# Altium integrated library TI Video Colour Decoder Circuit.IntLib: 24 symbols (part 1 of 3)
Pins are listed as number, name and electrical type; pins without a type are passive.

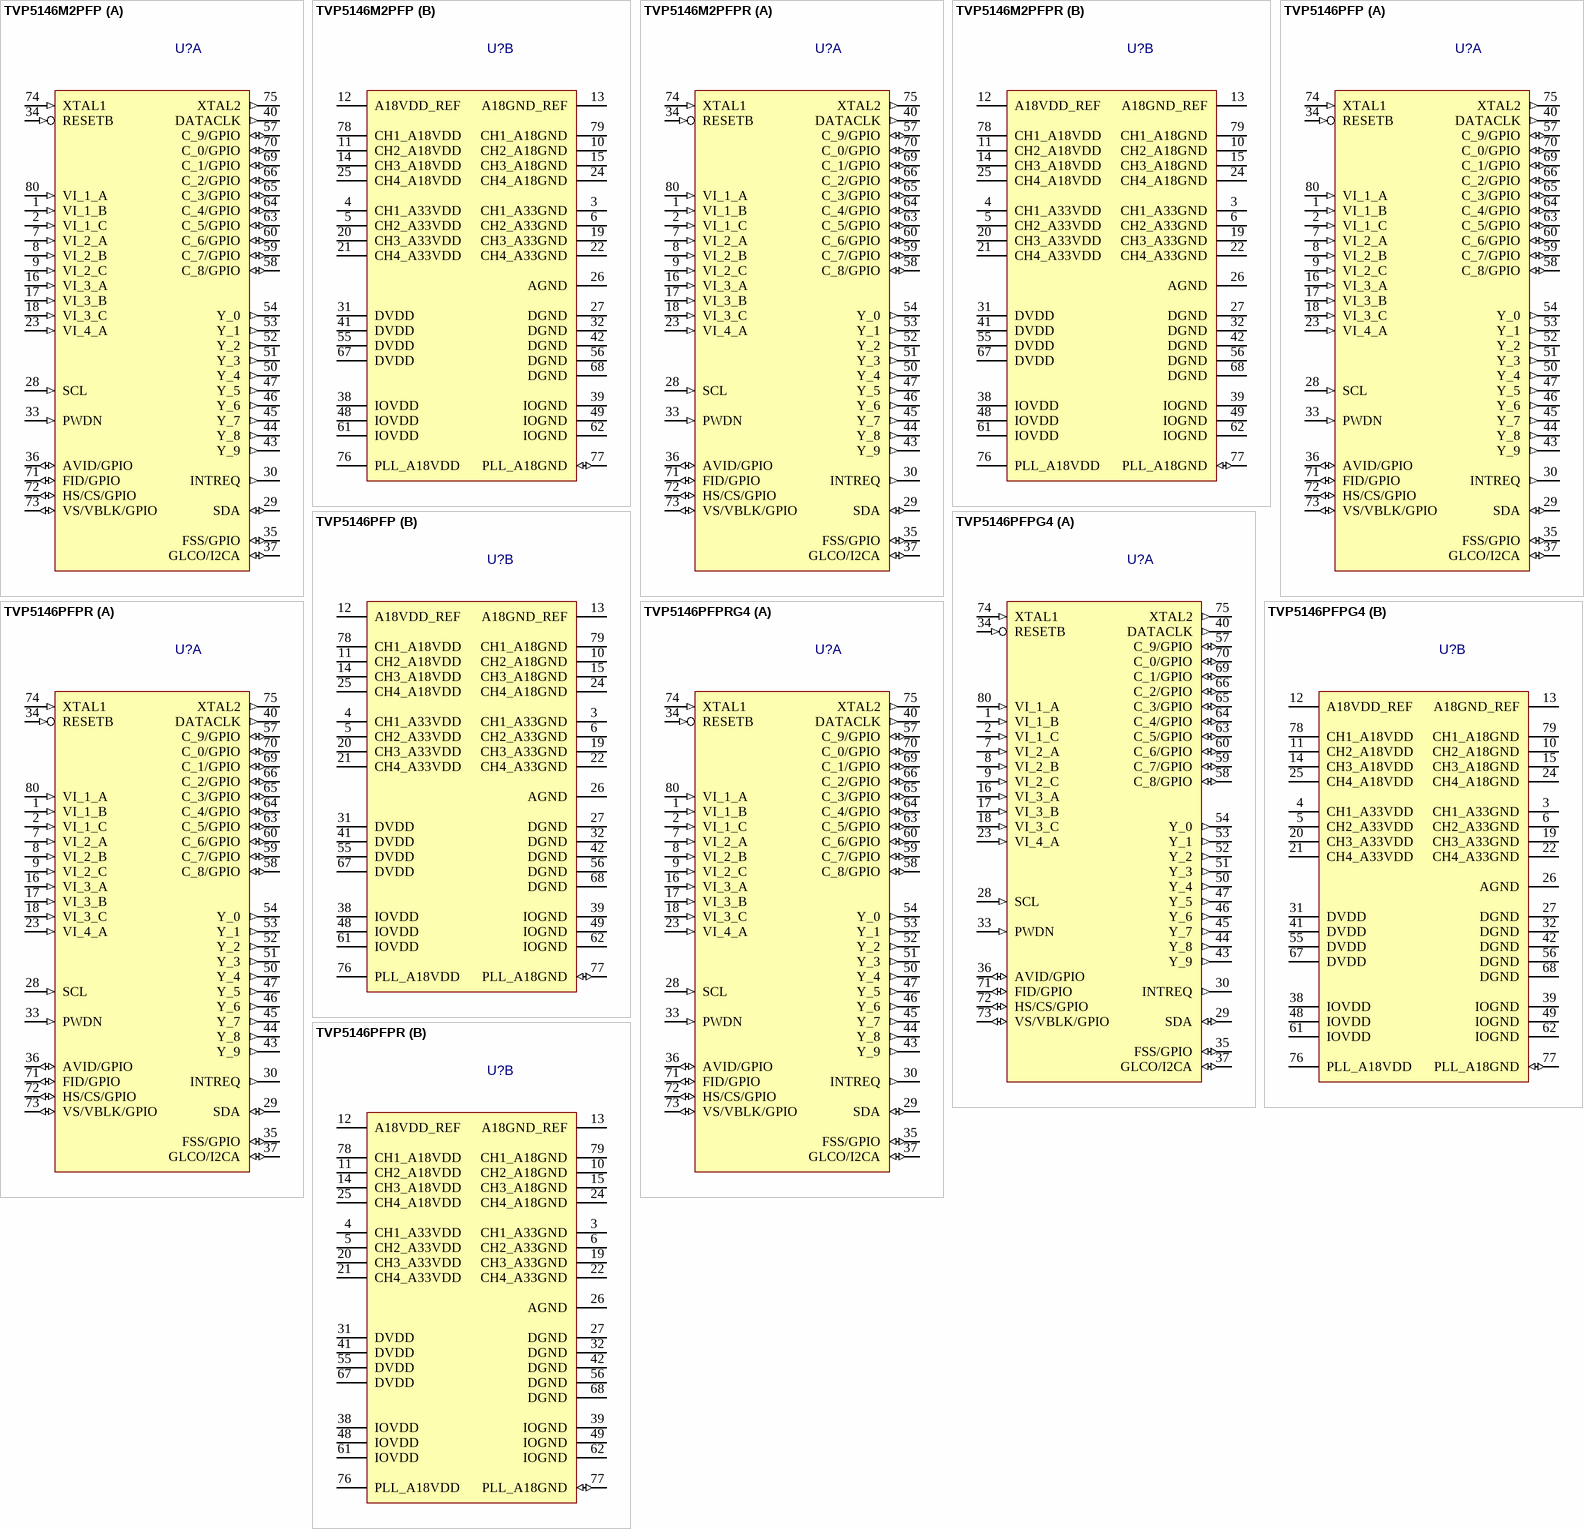
[diagram p0: symbols TVP5146M2PFP to TVP5146PFPRG4]

## TVP5146M2PFP
designator U?
NTSC/PAL/SECAM 4x10-Bit Digital Video Decoder with Macrovision Detection, YPbPr/RGB Inputs, 5-Line Comb Filter and SCART Support, 80-Pin HTQFP; Published: 6-Oct-2005; LatestRevisionDate: 13-Apr-2006; LatestRevisionNote: IPC-7351 Footprint Added.; DatasheetVersion: Jul-2005; PackageVersion: Aug-2003; PackageReference: PFP80; Publisher: Altium Limited; PackageDescription: 80-Pin Plastic Quad Flat Pack PowerPAD; ComponentLink1Description: Manufacturer Link; ComponentLink1URL: http://focus.ti.com/docs/prod/folders/print/tvp5146m2.html; ComponentLink2Description: Datasheet; ComponentLink2URL: http://focus.ti.com/lit/ds/symlink/tvp5146m2.pdf
footprint PFP80_N (Thin QFP, 80-Leads, Body 12x12mm, Pitch 0.5mm, IPC Medium Density)
footprint PFP80_L (Thin QFP, 80-Leads, Body 12x12mm, Pitch 0.5mm, IPC High Density)
footprint PFP80_M (Thin QFP, 80-Leads, Body 12x12mm, Pitch 0.5mm, IPC Low Density)
part A pins: 1 VI_1_B (in) "Analog video input for CVBS/Pb/B/C", 2 VI_1_C (in) "Analog video input for CVBS/Pb/B/C", 7 VI_2_A (in) "Analog video input for CVBS/Y/G", 8 VI_2_B (in) "Analog video input for CVBS/Y/G", 9 VI_2_C (in) "Analog video input for CVBS/Y/G", 16 VI_3_A (in) "Analog video input for CVBS/Pr/R/C", 17 VI_3_B (in) "Analog video input for CVBS/Pr/R/C", 18 VI_3_C (in) "Analog video input for CVBS/Pr/R/C", 23 VI_4_A (in) "Analog video input for CVBS/Y", 28 SCL (in) "I2C clock input.", 29 SDA (io) "I2C data bus", 30 INTREQ (out) "Interrupt request.", 33 PWDN (in) "Power-down input.", 34 RESETB (in) "Reset input, active low.", 35 FSS/GPIO (io) "Fast-switch (blanking) input. Programmable general-purpose I/O.", 36 AVID/GPIO (io) "Active video indicator output. Programmable general-purpose I/O.", 37 GLCO/I2CA (io) "Genlock control output (GLCO). During reset, used to program I2C address LSB.", 40 DATACLK (out) "Line-locked data output clock", 43 Y_9 (out) "Digital video output of Y/YCbCr (MSB).", 44 Y_8 (out) "Digital video output of Y/YCbCr.", 45 Y_7 (out) "Digital video output of Y/YCbCr.", 46 Y_6 (out) "Digital video output of Y/YCbCr.", 47 Y_5 (out) "Digital video output of Y/YCbCr.", 50 Y_4 (out) "Digital video output of Y/YCbCr.", 51 Y_3 (out) "Digital video output of Y/YCbCr.", 52 Y_2 (out) "Digital video output of Y/YCbCr.", 53 Y_1 (out) "Digital video output of Y/YCbCr.", 54 Y_0 (out) "Digital video output of Y/YCbCr (LSB).", 57 C_9/GPIO (io) "Digital video output of CbCr (MSB). Programmable general-purpose I/O", 58 C_8/GPIO (io) "Digital video output of CbCr. Programmable general-purpose I/O", 59 C_7/GPIO (io) "Digital video output of CbCr. Programmable general-purpose I/O", 60 C_6/GPIO (io) "Digital video output of CbCr. Programmable general-purpose I/O", 63 C_5/GPIO (io) "Digital video output of CbCr. Programmable general-purpose I/O", 64 C_4/GPIO (io) "Digital video output of CbCr. Programmable general-purpose I/O", 65 C_3/GPIO (io) "Digital video output of CbCr. Programmable general-purpose I/O", 66 C_2/GPIO (io) "Digital video output of CbCr. Programmable general-purpose I/O", 69 C_1/GPIO (io) "Digital video output of CbCr. Programmable general-purpose I/O", 70 C_0/GPIO (io) "Digital video output of CbCr (LSB). Programmable general-purpose I/O", 71 FID/GPIO (io) "Odd/even field indicator output. Programmable general-purpose I/O.", 72 HS/CS/GPIO (io) "Horizontal sync output or digital composite sync output. Programmable general-purpose I/O.", 73 VS/VBLK/GPIO (io) "Vertical sync output (for modes with dedicated VSYNC) or VBLK output. Programmable general-purpose I/O.", 74 XTAL1 (in) "External clock reference input.", 75 XTAL2 (out) "External clock reference output.", 80 VI_1_A (in) "Analog video input for CVBS/Pb/B/C"
part B pins: 3 CH1_A33GND (power) "Analog 3.3-V return", 4 CH1_A33VDD (power) "Analog power. Connect to 3.3 V.", 5 CH2_A33VDD (power) "Analog power. Connect to 3.3 V.", 6 CH2_A33GND (power) "Analog 3.3-V return", 10 CH2_A18GND (power) "Analog 1.8-V return", 11 CH2_A18VDD (power) "Analog power. Connect to 1.8 V.", 12 A18VDD_REF (power) "Analog power for reference 1.8 V.", 13 A18GND_REF (power) "Analog 1.8-V return.", 14 CH3_A18VDD (power) "Analog power. Connect to 1.8 V.", 15 CH3_A18GND (power) "Analog 1.8-V return", 19 CH3_A33GND (power) "Analog 3.3-V return", 20 CH3_A33VDD (power) "Analog power. Connect to 3.3 V.", 21 CH4_A33VDD (power) "Analog power. Connect to 3.3 V.", 22 CH4_A33GND (power) "Analog 3.3-V return", 24 CH4_A18GND (power) "Analog 1.8-V return", 25 CH4_A18VDD (power) "Analog power. Connect to 1.8 V.", 26 AGND (power) "Analog ground. Connect to analog ground.", 27 DGND (power) "Digital return", 31 DVDD (power) "Digital power. Connect to 1.8 V.", 32 DGND (power) "Digital return", 38 IOVDD (power) "Digital power. Connect to 3.3 V or less for reduced noise.", 39 IOGND (power) "Digital power return", 41 DVDD (power) "Digital power. Connect to 1.8 V.", 42 DGND (power) "Digital return", 48 IOVDD (power) "Digital power. Connect to 3.3 V or less for reduced noise.", 49 IOGND (power) "Digital power return", 55 DVDD (power) "Digital power. Connect to 1.8 V.", 56 DGND (power) "Digital return", 61 IOVDD (power) "Digital power. Connect to 3.3 V or less for reduced noise.", 62 IOGND (power) "Digital power return", 67 DVDD (power) "Digital power. Connect to 1.8 V.", 68 DGND (power) "Digital return", 76 PLL_A18VDD (power) "Analog power. Connect to 1.8 V.", 77 PLL_A18GND (io) "Analog power return", 78 CH1_A18VDD (power) "Analog power. Connect to 1.8 V.", 79 CH1_A18GND (power) "Analog 1.8-V return"

## TVP5146M2PFPR
designator U?
NTSC/PAL/SECAM 4x10-Bit Digital Video Decoder with Macrovision Detection, YPbPr/RGB Inputs, 5-Line Comb Filter and SCART Support, 80-Pin HTQFP; Published: 6-Oct-2005; LatestRevisionDate: 13-Apr-2006; LatestRevisionNote: IPC-7351 Footprint Added.; DatasheetVersion: Jul-2005; PackageVersion: Aug-2003; PackageReference: PFP80; Publisher: Altium Limited; PackageDescription: 80-Pin Plastic Quad Flat Pack PowerPAD; ComponentLink1Description: Manufacturer Link; ComponentLink1URL: http://focus.ti.com/docs/prod/folders/print/tvp5146m2.html; ComponentLink2Description: Datasheet; ComponentLink2URL: http://focus.ti.com/lit/ds/symlink/tvp5146m2.pdf
footprint PFP80_N (Thin QFP, 80-Leads, Body 12x12mm, Pitch 0.5mm, IPC Medium Density)
footprint PFP80_L (Thin QFP, 80-Leads, Body 12x12mm, Pitch 0.5mm, IPC High Density)
footprint PFP80_M (Thin QFP, 80-Leads, Body 12x12mm, Pitch 0.5mm, IPC Low Density)
part A pins: 1 VI_1_B (in) "Analog video input for CVBS/Pb/B/C", 2 VI_1_C (in) "Analog video input for CVBS/Pb/B/C", 7 VI_2_A (in) "Analog video input for CVBS/Y/G", 8 VI_2_B (in) "Analog video input for CVBS/Y/G", 9 VI_2_C (in) "Analog video input for CVBS/Y/G", 16 VI_3_A (in) "Analog video input for CVBS/Pr/R/C", 17 VI_3_B (in) "Analog video input for CVBS/Pr/R/C", 18 VI_3_C (in) "Analog video input for CVBS/Pr/R/C", 23 VI_4_A (in) "Analog video input for CVBS/Y", 28 SCL (in) "I2C clock input.", 29 SDA (io) "I2C data bus", 30 INTREQ (out) "Interrupt request.", 33 PWDN (in) "Power-down input.", 34 RESETB (in) "Reset input, active low.", 35 FSS/GPIO (io) "Fast-switch (blanking) input. Programmable general-purpose I/O.", 36 AVID/GPIO (io) "Active video indicator output. Programmable general-purpose I/O.", 37 GLCO/I2CA (io) "Genlock control output (GLCO). During reset, used to program I2C address LSB.", 40 DATACLK (out) "Line-locked data output clock", 43 Y_9 (out) "Digital video output of Y/YCbCr (MSB).", 44 Y_8 (out) "Digital video output of Y/YCbCr.", 45 Y_7 (out) "Digital video output of Y/YCbCr.", 46 Y_6 (out) "Digital video output of Y/YCbCr.", 47 Y_5 (out) "Digital video output of Y/YCbCr.", 50 Y_4 (out) "Digital video output of Y/YCbCr.", 51 Y_3 (out) "Digital video output of Y/YCbCr.", 52 Y_2 (out) "Digital video output of Y/YCbCr.", 53 Y_1 (out) "Digital video output of Y/YCbCr.", 54 Y_0 (out) "Digital video output of Y/YCbCr (LSB).", 57 C_9/GPIO (io) "Digital video output of CbCr (MSB). Programmable general-purpose I/O", 58 C_8/GPIO (io) "Digital video output of CbCr. Programmable general-purpose I/O", 59 C_7/GPIO (io) "Digital video output of CbCr. Programmable general-purpose I/O", 60 C_6/GPIO (io) "Digital video output of CbCr. Programmable general-purpose I/O", 63 C_5/GPIO (io) "Digital video output of CbCr. Programmable general-purpose I/O", 64 C_4/GPIO (io) "Digital video output of CbCr. Programmable general-purpose I/O", 65 C_3/GPIO (io) "Digital video output of CbCr. Programmable general-purpose I/O", 66 C_2/GPIO (io) "Digital video output of CbCr. Programmable general-purpose I/O", 69 C_1/GPIO (io) "Digital video output of CbCr. Programmable general-purpose I/O", 70 C_0/GPIO (io) "Digital video output of CbCr (LSB). Programmable general-purpose I/O", 71 FID/GPIO (io) "Odd/even field indicator output. Programmable general-purpose I/O.", 72 HS/CS/GPIO (io) "Horizontal sync output or digital composite sync output. Programmable general-purpose I/O.", 73 VS/VBLK/GPIO (io) "Vertical sync output (for modes with dedicated VSYNC) or VBLK output. Programmable general-purpose I/O.", 74 XTAL1 (in) "External clock reference input.", 75 XTAL2 (out) "External clock reference output.", 80 VI_1_A (in) "Analog video input for CVBS/Pb/B/C"
part B pins: 3 CH1_A33GND (power) "Analog 3.3-V return", 4 CH1_A33VDD (power) "Analog power. Connect to 3.3 V.", 5 CH2_A33VDD (power) "Analog power. Connect to 3.3 V.", 6 CH2_A33GND (power) "Analog 3.3-V return", 10 CH2_A18GND (power) "Analog 1.8-V return", 11 CH2_A18VDD (power) "Analog power. Connect to 1.8 V.", 12 A18VDD_REF (power) "Analog power for reference 1.8 V.", 13 A18GND_REF (power) "Analog 1.8-V return.", 14 CH3_A18VDD (power) "Analog power. Connect to 1.8 V.", 15 CH3_A18GND (power) "Analog 1.8-V return", 19 CH3_A33GND (power) "Analog 3.3-V return", 20 CH3_A33VDD (power) "Analog power. Connect to 3.3 V.", 21 CH4_A33VDD (power) "Analog power. Connect to 3.3 V.", 22 CH4_A33GND (power) "Analog 3.3-V return", 24 CH4_A18GND (power) "Analog 1.8-V return", 25 CH4_A18VDD (power) "Analog power. Connect to 1.8 V.", 26 AGND (power) "Analog ground. Connect to analog ground.", 27 DGND (power) "Digital return", 31 DVDD (power) "Digital power. Connect to 1.8 V.", 32 DGND (power) "Digital return", 38 IOVDD (power) "Digital power. Connect to 3.3 V or less for reduced noise.", 39 IOGND (power) "Digital power return", 41 DVDD (power) "Digital power. Connect to 1.8 V.", 42 DGND (power) "Digital return", 48 IOVDD (power) "Digital power. Connect to 3.3 V or less for reduced noise.", 49 IOGND (power) "Digital power return", 55 DVDD (power) "Digital power. Connect to 1.8 V.", 56 DGND (power) "Digital return", 61 IOVDD (power) "Digital power. Connect to 3.3 V or less for reduced noise.", 62 IOGND (power) "Digital power return", 67 DVDD (power) "Digital power. Connect to 1.8 V.", 68 DGND (power) "Digital return", 76 PLL_A18VDD (power) "Analog power. Connect to 1.8 V.", 77 PLL_A18GND (io) "Analog power return", 78 CH1_A18VDD (power) "Analog power. Connect to 1.8 V.", 79 CH1_A18GND (power) "Analog 1.8-V return"

## TVP5146PFP
designator U?
NTSC/PAL/SECAM 4x10-Bit Digital Video Decoder with Macrovision Detection, YPbPr/RGB Inputs, 5-Line Comb Filter and SCART Support, 80-Pin HTQFP; Published: 6-Oct-2005; LatestRevisionDate: 13-Apr-2006; LatestRevisionNote: IPC-7351 Footprint Added.; DatasheetVersion: Nov-2004; PackageVersion: Aug-2003; PackageReference: PFP80; Publisher: Altium Limited; PackageDescription: 80-Pin Plastic Quad Flat Pack PowerPAD; ComponentLink1Description: Manufacturer Link; ComponentLink1URL: http://focus.ti.com/docs/prod/folders/print/tvp5146.html; ComponentLink2Description: Datasheet; ComponentLink2URL: http://focus.ti.com/lit/ds/symlink/tvp5146.pdf
footprint PFP80_N (Thin QFP, 80-Leads, Body 12x12mm, Pitch 0.5mm, IPC Medium Density)
footprint PFP80_L (Thin QFP, 80-Leads, Body 12x12mm, Pitch 0.5mm, IPC High Density)
footprint PFP80_M (Thin QFP, 80-Leads, Body 12x12mm, Pitch 0.5mm, IPC Low Density)
part A pins: 1 VI_1_B (in) "Analog video input for CVBS/Pb/B/C", 2 VI_1_C (in) "Analog video input for CVBS/Pb/B/C", 7 VI_2_A (in) "Analog video input for CVBS/Y/G", 8 VI_2_B (in) "Analog video input for CVBS/Y/G", 9 VI_2_C (in) "Analog video input for CVBS/Y/G", 16 VI_3_A (in) "Analog video input for CVBS/Pr/R/C", 17 VI_3_B (in) "Analog video input for CVBS/Pr/R/C", 18 VI_3_C (in) "Analog video input for CVBS/Pr/R/C", 23 VI_4_A (in) "Analog video input for CVBS/Y", 28 SCL (in) "I2C clock input.", 29 SDA (io) "I2C data bus", 30 INTREQ (out) "Interrupt request.", 33 PWDN (in) "Power-down input.", 34 RESETB (in) "Reset input, active low.", 35 FSS/GPIO (io) "Fast-switch (blanking) input. Programmable general-purpose I/O.", 36 AVID/GPIO (io) "Active video indicator output. Programmable general-purpose I/O.", 37 GLCO/I2CA (io) "Genlock control output (GLCO). During reset, used to program I2C address LSB.", 40 DATACLK (out) "Line-locked data output clock", 43 Y_9 (out) "Digital video output of Y/YCbCr (MSB).", 44 Y_8 (out) "Digital video output of Y/YCbCr.", 45 Y_7 (out) "Digital video output of Y/YCbCr.", 46 Y_6 (out) "Digital video output of Y/YCbCr.", 47 Y_5 (out) "Digital video output of Y/YCbCr.", 50 Y_4 (out) "Digital video output of Y/YCbCr.", 51 Y_3 (out) "Digital video output of Y/YCbCr.", 52 Y_2 (out) "Digital video output of Y/YCbCr.", 53 Y_1 (out) "Digital video output of Y/YCbCr.", 54 Y_0 (out) "Digital video output of Y/YCbCr (LSB).", 57 C_9/GPIO (io) "Digital video output of CbCr (MSB). Programmable general-purpose I/O", 58 C_8/GPIO (io) "Digital video output of CbCr. Programmable general-purpose I/O", 59 C_7/GPIO (io) "Digital video output of CbCr. Programmable general-purpose I/O", 60 C_6/GPIO (io) "Digital video output of CbCr. Programmable general-purpose I/O", 63 C_5/GPIO (io) "Digital video output of CbCr. Programmable general-purpose I/O", 64 C_4/GPIO (io) "Digital video output of CbCr. Programmable general-purpose I/O", 65 C_3/GPIO (io) "Digital video output of CbCr. Programmable general-purpose I/O", 66 C_2/GPIO (io) "Digital video output of CbCr. Programmable general-purpose I/O", 69 C_1/GPIO (io) "Digital video output of CbCr. Programmable general-purpose I/O", 70 C_0/GPIO (io) "Digital video output of CbCr (LSB). Programmable general-purpose I/O", 71 FID/GPIO (io) "Odd/even field indicator output. Programmable general-purpose I/O.", 72 HS/CS/GPIO (io) "Horizontal sync output or digital composite sync output. Programmable general-purpose I/O.", 73 VS/VBLK/GPIO (io) "Vertical sync output (for modes with dedicated VSYNC) or VBLK output. Programmable general-purpose I/O.", 74 XTAL1 (in) "External clock reference input.", 75 XTAL2 (out) "External clock reference output.", 80 VI_1_A (in) "Analog video input for CVBS/Pb/B/C"
part B pins: 3 CH1_A33GND (power) "Analog 3.3-V return", 4 CH1_A33VDD (power) "Analog power. Connect to 3.3 V.", 5 CH2_A33VDD (power) "Analog power. Connect to 3.3 V.", 6 CH2_A33GND (power) "Analog 3.3-V return", 10 CH2_A18GND (power) "Analog 1.8-V return", 11 CH2_A18VDD (power) "Analog power. Connect to 1.8 V.", 12 A18VDD_REF (power) "Analog power for reference 1.8 V.", 13 A18GND_REF (power) "Analog 1.8-V return.", 14 CH3_A18VDD (power) "Analog power. Connect to 1.8 V.", 15 CH3_A18GND (power) "Analog 1.8-V return", 19 CH3_A33GND (power) "Analog 3.3-V return", 20 CH3_A33VDD (power) "Analog power. Connect to 3.3 V.", 21 CH4_A33VDD (power) "Analog power. Connect to 3.3 V.", 22 CH4_A33GND (power) "Analog 3.3-V return", 24 CH4_A18GND (power) "Analog 1.8-V return", 25 CH4_A18VDD (power) "Analog power. Connect to 1.8 V.", 26 AGND (power) "Analog ground. Connect to analog ground.", 27 DGND (power) "Digital return", 31 DVDD (power) "Digital power. Connect to 1.8 V.", 32 DGND (power) "Digital return", 38 IOVDD (power) "Digital power. Connect to 3.3 V or less for reduced noise.", 39 IOGND (power) "Digital power return", 41 DVDD (power) "Digital power. Connect to 1.8 V.", 42 DGND (power) "Digital return", 48 IOVDD (power) "Digital power. Connect to 3.3 V or less for reduced noise.", 49 IOGND (power) "Digital power return", 55 DVDD (power) "Digital power. Connect to 1.8 V.", 56 DGND (power) "Digital return", 61 IOVDD (power) "Digital power. Connect to 3.3 V or less for reduced noise.", 62 IOGND (power) "Digital power return", 67 DVDD (power) "Digital power. Connect to 1.8 V.", 68 DGND (power) "Digital return", 76 PLL_A18VDD (power) "Analog power. Connect to 1.8 V.", 77 PLL_A18GND (io) "Analog power return", 78 CH1_A18VDD (power) "Analog power. Connect to 1.8 V.", 79 CH1_A18GND (power) "Analog 1.8-V return"

## TVP5146PFPG4
designator U?
NTSC/PAL/SECAM 4x10-Bit Digital Video Decoder with Macrovision Detection, YPbPr/RGB Inputs, 5-Line Comb Filter and SCART Support, 80-Pin HTQFP; Published: 6-Oct-2005; LatestRevisionDate: 13-Apr-2006; LatestRevisionNote: IPC-7351 Footprint Added.; DatasheetVersion: Nov-2004; PackageVersion: Aug-2003; PackageReference: PFP80; Publisher: Altium Limited; PackageDescription: 80-Pin Plastic Quad Flat Pack PowerPAD; ComponentLink1Description: Manufacturer Link; ComponentLink1URL: http://focus.ti.com/docs/prod/folders/print/tvp5146.html; ComponentLink2Description: Datasheet; ComponentLink2URL: http://focus.ti.com/lit/ds/symlink/tvp5146.pdf
footprint PFP80_N (Thin QFP, 80-Leads, Body 12x12mm, Pitch 0.5mm, IPC Medium Density)
footprint PFP80_L (Thin QFP, 80-Leads, Body 12x12mm, Pitch 0.5mm, IPC High Density)
footprint PFP80_M (Thin QFP, 80-Leads, Body 12x12mm, Pitch 0.5mm, IPC Low Density)
part A pins: 1 VI_1_B (in) "Analog video input for CVBS/Pb/B/C", 2 VI_1_C (in) "Analog video input for CVBS/Pb/B/C", 7 VI_2_A (in) "Analog video input for CVBS/Y/G", 8 VI_2_B (in) "Analog video input for CVBS/Y/G", 9 VI_2_C (in) "Analog video input for CVBS/Y/G", 16 VI_3_A (in) "Analog video input for CVBS/Pr/R/C", 17 VI_3_B (in) "Analog video input for CVBS/Pr/R/C", 18 VI_3_C (in) "Analog video input for CVBS/Pr/R/C", 23 VI_4_A (in) "Analog video input for CVBS/Y", 28 SCL (in) "I2C clock input.", 29 SDA (io) "I2C data bus", 30 INTREQ (out) "Interrupt request.", 33 PWDN (in) "Power-down input.", 34 RESETB (in) "Reset input, active low.", 35 FSS/GPIO (io) "Fast-switch (blanking) input. Programmable general-purpose I/O.", 36 AVID/GPIO (io) "Active video indicator output. Programmable general-purpose I/O.", 37 GLCO/I2CA (io) "Genlock control output (GLCO). During reset, used to program I2C address LSB.", 40 DATACLK (out) "Line-locked data output clock", 43 Y_9 (out) "Digital video output of Y/YCbCr (MSB).", 44 Y_8 (out) "Digital video output of Y/YCbCr.", 45 Y_7 (out) "Digital video output of Y/YCbCr.", 46 Y_6 (out) "Digital video output of Y/YCbCr.", 47 Y_5 (out) "Digital video output of Y/YCbCr.", 50 Y_4 (out) "Digital video output of Y/YCbCr.", 51 Y_3 (out) "Digital video output of Y/YCbCr.", 52 Y_2 (out) "Digital video output of Y/YCbCr.", 53 Y_1 (out) "Digital video output of Y/YCbCr.", 54 Y_0 (out) "Digital video output of Y/YCbCr (LSB).", 57 C_9/GPIO (io) "Digital video output of CbCr (MSB). Programmable general-purpose I/O", 58 C_8/GPIO (io) "Digital video output of CbCr. Programmable general-purpose I/O", 59 C_7/GPIO (io) "Digital video output of CbCr. Programmable general-purpose I/O", 60 C_6/GPIO (io) "Digital video output of CbCr. Programmable general-purpose I/O", 63 C_5/GPIO (io) "Digital video output of CbCr. Programmable general-purpose I/O", 64 C_4/GPIO (io) "Digital video output of CbCr. Programmable general-purpose I/O", 65 C_3/GPIO (io) "Digital video output of CbCr. Programmable general-purpose I/O", 66 C_2/GPIO (io) "Digital video output of CbCr. Programmable general-purpose I/O", 69 C_1/GPIO (io) "Digital video output of CbCr. Programmable general-purpose I/O", 70 C_0/GPIO (io) "Digital video output of CbCr (LSB). Programmable general-purpose I/O", 71 FID/GPIO (io) "Odd/even field indicator output. Programmable general-purpose I/O.", 72 HS/CS/GPIO (io) "Horizontal sync output or digital composite sync output. Programmable general-purpose I/O.", 73 VS/VBLK/GPIO (io) "Vertical sync output (for modes with dedicated VSYNC) or VBLK output. Programmable general-purpose I/O.", 74 XTAL1 (in) "External clock reference input.", 75 XTAL2 (out) "External clock reference output.", 80 VI_1_A (in) "Analog video input for CVBS/Pb/B/C"
part B pins: 3 CH1_A33GND (power) "Analog 3.3-V return", 4 CH1_A33VDD (power) "Analog power. Connect to 3.3 V.", 5 CH2_A33VDD (power) "Analog power. Connect to 3.3 V.", 6 CH2_A33GND (power) "Analog 3.3-V return", 10 CH2_A18GND (power) "Analog 1.8-V return", 11 CH2_A18VDD (power) "Analog power. Connect to 1.8 V.", 12 A18VDD_REF (power) "Analog power for reference 1.8 V.", 13 A18GND_REF (power) "Analog 1.8-V return.", 14 CH3_A18VDD (power) "Analog power. Connect to 1.8 V.", 15 CH3_A18GND (power) "Analog 1.8-V return", 19 CH3_A33GND (power) "Analog 3.3-V return", 20 CH3_A33VDD (power) "Analog power. Connect to 3.3 V.", 21 CH4_A33VDD (power) "Analog power. Connect to 3.3 V.", 22 CH4_A33GND (power) "Analog 3.3-V return", 24 CH4_A18GND (power) "Analog 1.8-V return", 25 CH4_A18VDD (power) "Analog power. Connect to 1.8 V.", 26 AGND (power) "Analog ground. Connect to analog ground.", 27 DGND (power) "Digital return", 31 DVDD (power) "Digital power. Connect to 1.8 V.", 32 DGND (power) "Digital return", 38 IOVDD (power) "Digital power. Connect to 3.3 V or less for reduced noise.", 39 IOGND (power) "Digital power return", 41 DVDD (power) "Digital power. Connect to 1.8 V.", 42 DGND (power) "Digital return", 48 IOVDD (power) "Digital power. Connect to 3.3 V or less for reduced noise.", 49 IOGND (power) "Digital power return", 55 DVDD (power) "Digital power. Connect to 1.8 V.", 56 DGND (power) "Digital return", 61 IOVDD (power) "Digital power. Connect to 3.3 V or less for reduced noise.", 62 IOGND (power) "Digital power return", 67 DVDD (power) "Digital power. Connect to 1.8 V.", 68 DGND (power) "Digital return", 76 PLL_A18VDD (power) "Analog power. Connect to 1.8 V.", 77 PLL_A18GND (io) "Analog power return", 78 CH1_A18VDD (power) "Analog power. Connect to 1.8 V.", 79 CH1_A18GND (power) "Analog 1.8-V return"

## TVP5146PFPR
designator U?
NTSC/PAL/SECAM 4x10-Bit Digital Video Decoder with Macrovision Detection, YPbPr/RGB Inputs, 5-Line Comb Filter and SCART Support, 80-Pin HTQFP; Published: 6-Oct-2005; LatestRevisionDate: 13-Apr-2006; LatestRevisionNote: IPC-7351 Footprint Added.; DatasheetVersion: Nov-2004; PackageVersion: Aug-2003; PackageReference: PFP80; Publisher: Altium Limited; PackageDescription: 80-Pin Plastic Quad Flat Pack PowerPAD; ComponentLink1Description: Manufacturer Link; ComponentLink1URL: http://focus.ti.com/docs/prod/folders/print/tvp5146.html; ComponentLink2Description: Datasheet; ComponentLink2URL: http://focus.ti.com/lit/ds/symlink/tvp5146.pdf
footprint PFP80_N (Thin QFP, 80-Leads, Body 12x12mm, Pitch 0.5mm, IPC Medium Density)
footprint PFP80_L (Thin QFP, 80-Leads, Body 12x12mm, Pitch 0.5mm, IPC High Density)
footprint PFP80_M (Thin QFP, 80-Leads, Body 12x12mm, Pitch 0.5mm, IPC Low Density)
part A pins: 1 VI_1_B (in) "Analog video input for CVBS/Pb/B/C", 2 VI_1_C (in) "Analog video input for CVBS/Pb/B/C", 7 VI_2_A (in) "Analog video input for CVBS/Y/G", 8 VI_2_B (in) "Analog video input for CVBS/Y/G", 9 VI_2_C (in) "Analog video input for CVBS/Y/G", 16 VI_3_A (in) "Analog video input for CVBS/Pr/R/C", 17 VI_3_B (in) "Analog video input for CVBS/Pr/R/C", 18 VI_3_C (in) "Analog video input for CVBS/Pr/R/C", 23 VI_4_A (in) "Analog video input for CVBS/Y", 28 SCL (in) "I2C clock input.", 29 SDA (io) "I2C data bus", 30 INTREQ (out) "Interrupt request.", 33 PWDN (in) "Power-down input.", 34 RESETB (in) "Reset input, active low.", 35 FSS/GPIO (io) "Fast-switch (blanking) input. Programmable general-purpose I/O.", 36 AVID/GPIO (io) "Active video indicator output. Programmable general-purpose I/O.", 37 GLCO/I2CA (io) "Genlock control output (GLCO). During reset, used to program I2C address LSB.", 40 DATACLK (out) "Line-locked data output clock", 43 Y_9 (out) "Digital video output of Y/YCbCr (MSB).", 44 Y_8 (out) "Digital video output of Y/YCbCr.", 45 Y_7 (out) "Digital video output of Y/YCbCr.", 46 Y_6 (out) "Digital video output of Y/YCbCr.", 47 Y_5 (out) "Digital video output of Y/YCbCr.", 50 Y_4 (out) "Digital video output of Y/YCbCr.", 51 Y_3 (out) "Digital video output of Y/YCbCr.", 52 Y_2 (out) "Digital video output of Y/YCbCr.", 53 Y_1 (out) "Digital video output of Y/YCbCr.", 54 Y_0 (out) "Digital video output of Y/YCbCr (LSB).", 57 C_9/GPIO (io) "Digital video output of CbCr (MSB). Programmable general-purpose I/O", 58 C_8/GPIO (io) "Digital video output of CbCr. Programmable general-purpose I/O", 59 C_7/GPIO (io) "Digital video output of CbCr. Programmable general-purpose I/O", 60 C_6/GPIO (io) "Digital video output of CbCr. Programmable general-purpose I/O", 63 C_5/GPIO (io) "Digital video output of CbCr. Programmable general-purpose I/O", 64 C_4/GPIO (io) "Digital video output of CbCr. Programmable general-purpose I/O", 65 C_3/GPIO (io) "Digital video output of CbCr. Programmable general-purpose I/O", 66 C_2/GPIO (io) "Digital video output of CbCr. Programmable general-purpose I/O", 69 C_1/GPIO (io) "Digital video output of CbCr. Programmable general-purpose I/O", 70 C_0/GPIO (io) "Digital video output of CbCr (LSB). Programmable general-purpose I/O", 71 FID/GPIO (io) "Odd/even field indicator output. Programmable general-purpose I/O.", 72 HS/CS/GPIO (io) "Horizontal sync output or digital composite sync output. Programmable general-purpose I/O.", 73 VS/VBLK/GPIO (io) "Vertical sync output (for modes with dedicated VSYNC) or VBLK output. Programmable general-purpose I/O.", 74 XTAL1 (in) "External clock reference input.", 75 XTAL2 (out) "External clock reference output.", 80 VI_1_A (in) "Analog video input for CVBS/Pb/B/C"
part B pins: 3 CH1_A33GND (power) "Analog 3.3-V return", 4 CH1_A33VDD (power) "Analog power. Connect to 3.3 V.", 5 CH2_A33VDD (power) "Analog power. Connect to 3.3 V.", 6 CH2_A33GND (power) "Analog 3.3-V return", 10 CH2_A18GND (power) "Analog 1.8-V return", 11 CH2_A18VDD (power) "Analog power. Connect to 1.8 V.", 12 A18VDD_REF (power) "Analog power for reference 1.8 V.", 13 A18GND_REF (power) "Analog 1.8-V return.", 14 CH3_A18VDD (power) "Analog power. Connect to 1.8 V.", 15 CH3_A18GND (power) "Analog 1.8-V return", 19 CH3_A33GND (power) "Analog 3.3-V return", 20 CH3_A33VDD (power) "Analog power. Connect to 3.3 V.", 21 CH4_A33VDD (power) "Analog power. Connect to 3.3 V.", 22 CH4_A33GND (power) "Analog 3.3-V return", 24 CH4_A18GND (power) "Analog 1.8-V return", 25 CH4_A18VDD (power) "Analog power. Connect to 1.8 V.", 26 AGND (power) "Analog ground. Connect to analog ground.", 27 DGND (power) "Digital return", 31 DVDD (power) "Digital power. Connect to 1.8 V.", 32 DGND (power) "Digital return", 38 IOVDD (power) "Digital power. Connect to 3.3 V or less for reduced noise.", 39 IOGND (power) "Digital power return", 41 DVDD (power) "Digital power. Connect to 1.8 V.", 42 DGND (power) "Digital return", 48 IOVDD (power) "Digital power. Connect to 3.3 V or less for reduced noise.", 49 IOGND (power) "Digital power return", 55 DVDD (power) "Digital power. Connect to 1.8 V.", 56 DGND (power) "Digital return", 61 IOVDD (power) "Digital power. Connect to 3.3 V or less for reduced noise.", 62 IOGND (power) "Digital power return", 67 DVDD (power) "Digital power. Connect to 1.8 V.", 68 DGND (power) "Digital return", 76 PLL_A18VDD (power) "Analog power. Connect to 1.8 V.", 77 PLL_A18GND (io) "Analog power return", 78 CH1_A18VDD (power) "Analog power. Connect to 1.8 V.", 79 CH1_A18GND (power) "Analog 1.8-V return"

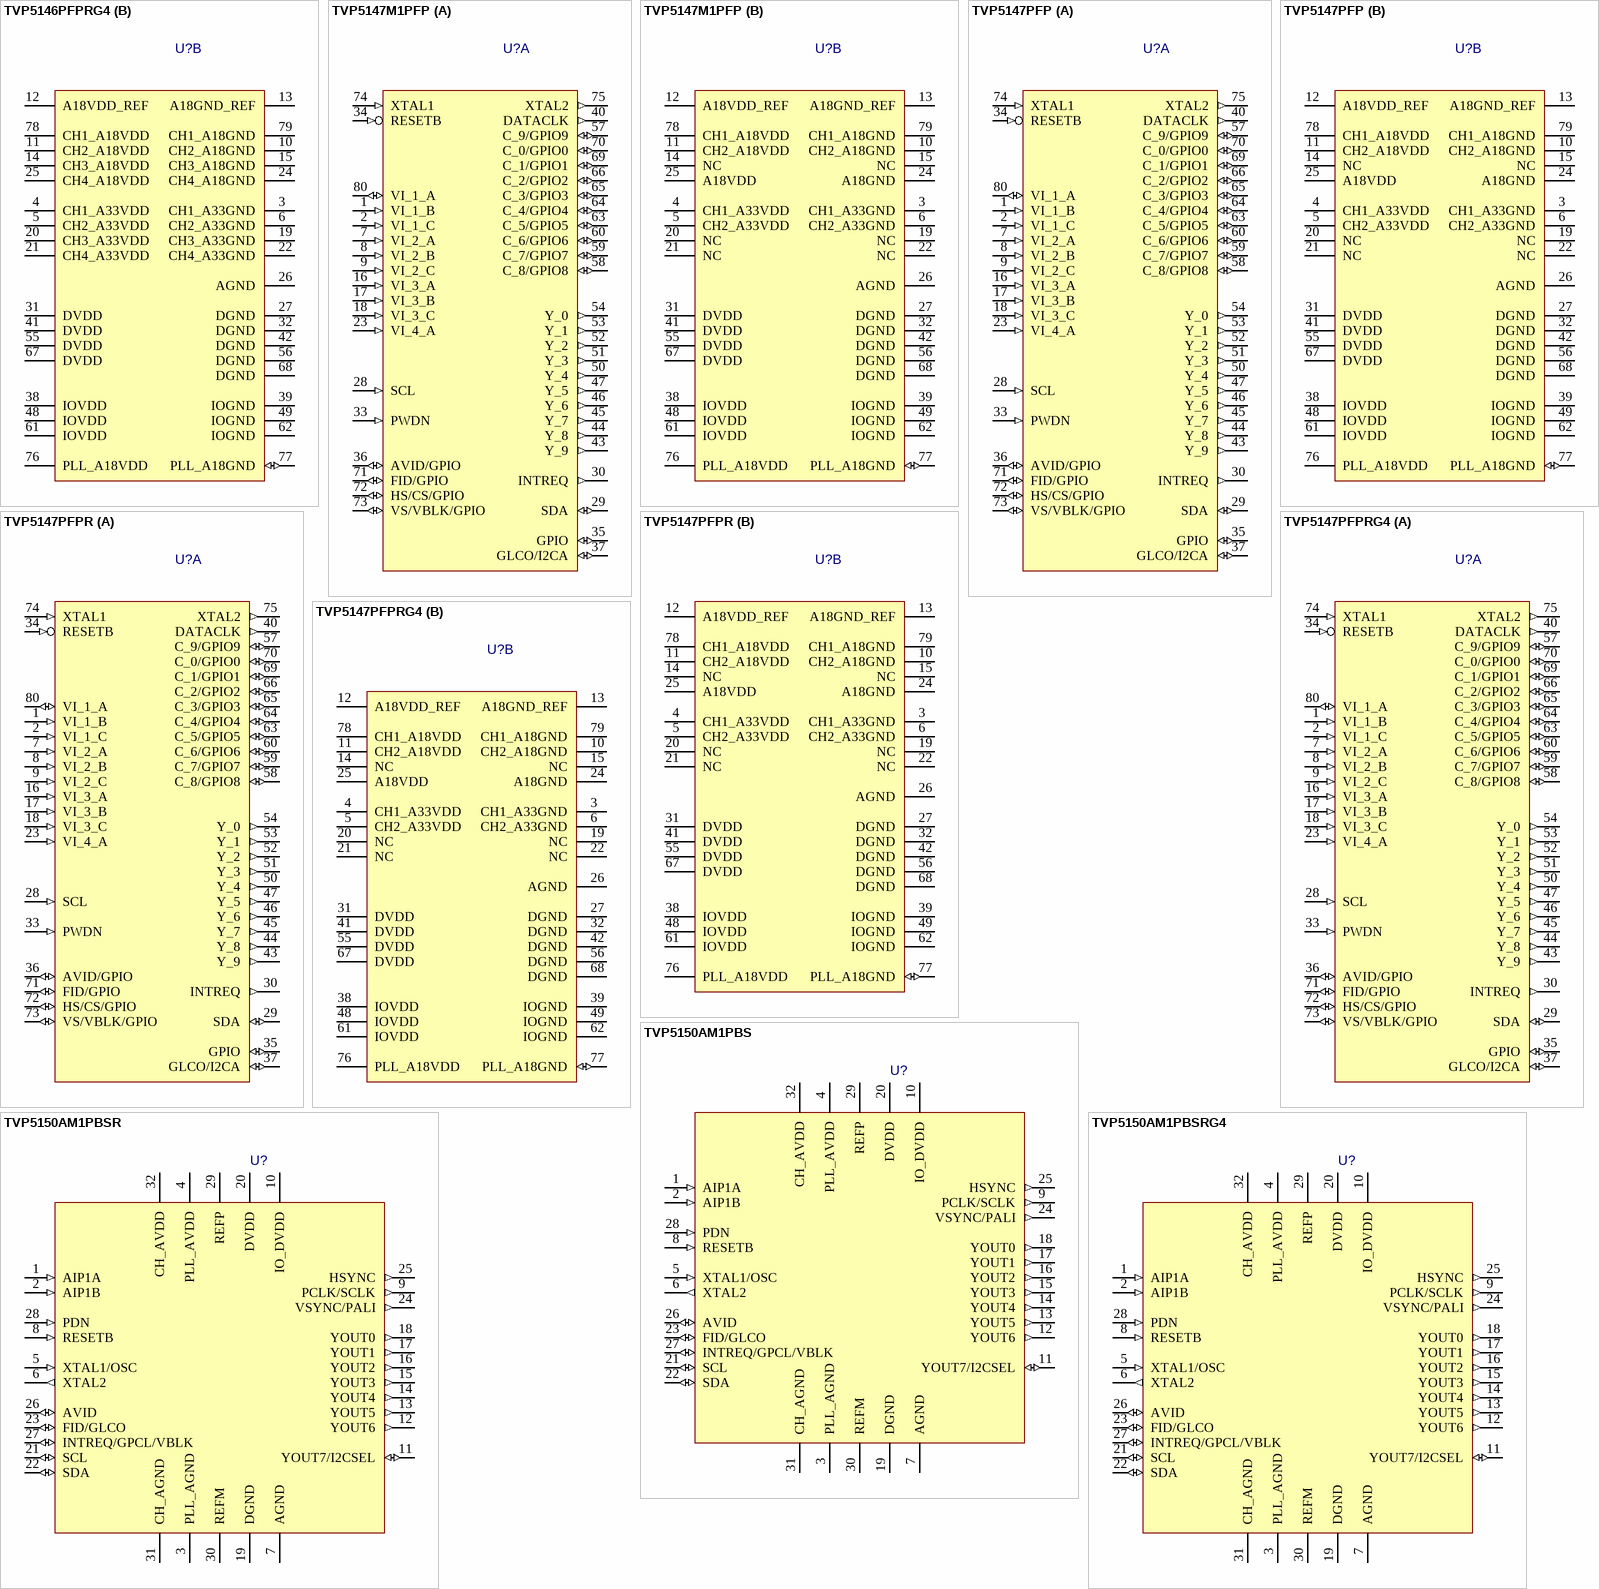
[diagram p1: symbols TVP5146PFPRG4 to TVP5150AM1PBSRG4]

## TVP5146PFPRG4
designator U?
NTSC/PAL/SECAM 4x10-Bit Digital Video Decoder with Macrovision Detection, YPbPr/RGB Inputs, 5-Line Comb Filter and SCART Support, 80-Pin HTQFP; Published: 6-Oct-2005; LatestRevisionDate: 13-Apr-2006; LatestRevisionNote: IPC-7351 Footprint Added.; DatasheetVersion: Nov-2004; PackageVersion: Aug-2003; PackageReference: PFP80; Publisher: Altium Limited; PackageDescription: 80-Pin Plastic Quad Flat Pack PowerPAD; ComponentLink1Description: Manufacturer Link; ComponentLink1URL: http://focus.ti.com/docs/prod/folders/print/tvp5146.html; ComponentLink2Description: Datasheet; ComponentLink2URL: http://focus.ti.com/lit/ds/symlink/tvp5146.pdf
footprint PFP80_N (Thin QFP, 80-Leads, Body 12x12mm, Pitch 0.5mm, IPC Medium Density)
footprint PFP80_L (Thin QFP, 80-Leads, Body 12x12mm, Pitch 0.5mm, IPC High Density)
footprint PFP80_M (Thin QFP, 80-Leads, Body 12x12mm, Pitch 0.5mm, IPC Low Density)
part A pins: 1 VI_1_B (in) "Analog video input for CVBS/Pb/B/C", 2 VI_1_C (in) "Analog video input for CVBS/Pb/B/C", 7 VI_2_A (in) "Analog video input for CVBS/Y/G", 8 VI_2_B (in) "Analog video input for CVBS/Y/G", 9 VI_2_C (in) "Analog video input for CVBS/Y/G", 16 VI_3_A (in) "Analog video input for CVBS/Pr/R/C", 17 VI_3_B (in) "Analog video input for CVBS/Pr/R/C", 18 VI_3_C (in) "Analog video input for CVBS/Pr/R/C", 23 VI_4_A (in) "Analog video input for CVBS/Y", 28 SCL (in) "I2C clock input.", 29 SDA (io) "I2C data bus", 30 INTREQ (out) "Interrupt request.", 33 PWDN (in) "Power-down input.", 34 RESETB (in) "Reset input, active low.", 35 FSS/GPIO (io) "Fast-switch (blanking) input. Programmable general-purpose I/O.", 36 AVID/GPIO (io) "Active video indicator output. Programmable general-purpose I/O.", 37 GLCO/I2CA (io) "Genlock control output (GLCO). During reset, used to program I2C address LSB.", 40 DATACLK (out) "Line-locked data output clock", 43 Y_9 (out) "Digital video output of Y/YCbCr (MSB).", 44 Y_8 (out) "Digital video output of Y/YCbCr.", 45 Y_7 (out) "Digital video output of Y/YCbCr.", 46 Y_6 (out) "Digital video output of Y/YCbCr.", 47 Y_5 (out) "Digital video output of Y/YCbCr.", 50 Y_4 (out) "Digital video output of Y/YCbCr.", 51 Y_3 (out) "Digital video output of Y/YCbCr.", 52 Y_2 (out) "Digital video output of Y/YCbCr.", 53 Y_1 (out) "Digital video output of Y/YCbCr.", 54 Y_0 (out) "Digital video output of Y/YCbCr (LSB).", 57 C_9/GPIO (io) "Digital video output of CbCr (MSB). Programmable general-purpose I/O", 58 C_8/GPIO (io) "Digital video output of CbCr. Programmable general-purpose I/O", 59 C_7/GPIO (io) "Digital video output of CbCr. Programmable general-purpose I/O", 60 C_6/GPIO (io) "Digital video output of CbCr. Programmable general-purpose I/O", 63 C_5/GPIO (io) "Digital video output of CbCr. Programmable general-purpose I/O", 64 C_4/GPIO (io) "Digital video output of CbCr. Programmable general-purpose I/O", 65 C_3/GPIO (io) "Digital video output of CbCr. Programmable general-purpose I/O", 66 C_2/GPIO (io) "Digital video output of CbCr. Programmable general-purpose I/O", 69 C_1/GPIO (io) "Digital video output of CbCr. Programmable general-purpose I/O", 70 C_0/GPIO (io) "Digital video output of CbCr (LSB). Programmable general-purpose I/O", 71 FID/GPIO (io) "Odd/even field indicator output. Programmable general-purpose I/O.", 72 HS/CS/GPIO (io) "Horizontal sync output or digital composite sync output. Programmable general-purpose I/O.", 73 VS/VBLK/GPIO (io) "Vertical sync output (for modes with dedicated VSYNC) or VBLK output. Programmable general-purpose I/O.", 74 XTAL1 (in) "External clock reference input.", 75 XTAL2 (out) "External clock reference output.", 80 VI_1_A (in) "Analog video input for CVBS/Pb/B/C"
part B pins: 3 CH1_A33GND (power) "Analog 3.3-V return", 4 CH1_A33VDD (power) "Analog power. Connect to 3.3 V.", 5 CH2_A33VDD (power) "Analog power. Connect to 3.3 V.", 6 CH2_A33GND (power) "Analog 3.3-V return", 10 CH2_A18GND (power) "Analog 1.8-V return", 11 CH2_A18VDD (power) "Analog power. Connect to 1.8 V.", 12 A18VDD_REF (power) "Analog power for reference 1.8 V.", 13 A18GND_REF (power) "Analog 1.8-V return.", 14 CH3_A18VDD (power) "Analog power. Connect to 1.8 V.", 15 CH3_A18GND (power) "Analog 1.8-V return", 19 CH3_A33GND (power) "Analog 3.3-V return", 20 CH3_A33VDD (power) "Analog power. Connect to 3.3 V.", 21 CH4_A33VDD (power) "Analog power. Connect to 3.3 V.", 22 CH4_A33GND (power) "Analog 3.3-V return", 24 CH4_A18GND (power) "Analog 1.8-V return", 25 CH4_A18VDD (power) "Analog power. Connect to 1.8 V.", 26 AGND (power) "Analog ground. Connect to analog ground.", 27 DGND (power) "Digital return", 31 DVDD (power) "Digital power. Connect to 1.8 V.", 32 DGND (power) "Digital return", 38 IOVDD (power) "Digital power. Connect to 3.3 V or less for reduced noise.", 39 IOGND (power) "Digital power return", 41 DVDD (power) "Digital power. Connect to 1.8 V.", 42 DGND (power) "Digital return", 48 IOVDD (power) "Digital power. Connect to 3.3 V or less for reduced noise.", 49 IOGND (power) "Digital power return", 55 DVDD (power) "Digital power. Connect to 1.8 V.", 56 DGND (power) "Digital return", 61 IOVDD (power) "Digital power. Connect to 3.3 V or less for reduced noise.", 62 IOGND (power) "Digital power return", 67 DVDD (power) "Digital power. Connect to 1.8 V.", 68 DGND (power) "Digital return", 76 PLL_A18VDD (power) "Analog power. Connect to 1.8 V.", 77 PLL_A18GND (io) "Analog power return", 78 CH1_A18VDD (power) "Analog power. Connect to 1.8 V.", 79 CH1_A18GND (power) "Analog 1.8-V return"

## TVP5147M1PFP
designator U?
NTSC/PAL/SECAM 2x10-Bit Digital Video Decoder with Macrovision Detection, YPbPr Inputs, 5-Line Comb Filter, 80-Pin HTQFP; Published: 6-Oct-2005; LatestRevisionDate: 13-Apr-2006; LatestRevisionNote: IPC-7351 Footprint Added.; DatasheetVersion: Jul-2005; PackageVersion: Aug-2003; PackageReference: PFP80; Publisher: Altium Limited; PackageDescription: 80-Pin Plastic Quad Flat Pack PowerPAD; ComponentLink1Description: Manufacturer Link; ComponentLink1URL: http://focus.ti.com/docs/prod/folders/print/tvp5147m1.html; ComponentLink2Description: Datasheet; ComponentLink2URL: http://focus.ti.com/lit/ds/symlink/tvp5147m1.pdf
footprint PFP80_N (Thin QFP, 80-Leads, Body 12x12mm, Pitch 0.5mm, IPC Medium Density)
footprint PFP80_L (Thin QFP, 80-Leads, Body 12x12mm, Pitch 0.5mm, IPC High Density)
footprint PFP80_M (Thin QFP, 80-Leads, Body 12x12mm, Pitch 0.5mm, IPC Low Density)
part A pins: 1 VI_1_B (in) "Analog video input for CVBS/Pb/C", 2 VI_1_C (in) "Analog video input for CVBS/Pb/C", 7 VI_2_A (in) "Analog video input for CVBS/Y", 8 VI_2_B (in) "Analog video input for CVBS/Y", 9 VI_2_C (in) "Analog video input for CVBS/Y", 16 VI_3_A (in) "Analog video input for CVBS/Pr/C", 17 VI_3_B (in) "Analog video input for CVBS/Pr/C", 18 VI_3_C (in) "Analog video input for CVBS/Pr/C", 23 VI_4_A (in) "Analog video input for CVBS/Y", 28 SCL (in) "I2C clock input.", 29 SDA (io) "I2C data bus", 30 INTREQ (out) "Interrupt request.", 33 PWDN (in) "Power-down input.", 34 RESETB (in) "Reset input, active low.", 35 GPIO (io) "Programmable general-purpose I/O.", 36 AVID/GPIO (io) "Active video indicator output. Programmable general-purpose I/O.", 37 GLCO/I2CA (io) "Genlock control output (GLCO). During reset, used to program I2C address LSB.", 40 DATACLK (out) "Line-locked data output clock", 43 Y_9 (out) "Digital video output of Y/YCbCr (MSB).", 44 Y_8 (out) "Digital video output of Y/YCbCr.", 45 Y_7 (out) "Digital video output of Y/YCbCr.", 46 Y_6 (out) "Digital video output of Y/YCbCr.", 47 Y_5 (out) "Digital video output of Y/YCbCr.", 50 Y_4 (out) "Digital video output of Y/YCbCr.", 51 Y_3 (out) "Digital video output of Y/YCbCr.", 52 Y_2 (out) "Digital video output of Y/YCbCr.", 53 Y_1 (out) "Digital video output of Y/YCbCr.", 54 Y_0 (out) "Digital video output of Y/YCbCr (LSB).", 57 C_9/GPIO9 (io) "Digital video output of CbCr (MSB). Programmable general-purpose I/O", 58 C_8/GPIO8 (io) "Digital video output of CbCr. Programmable general-purpose I/O", 59 C_7/GPIO7 (io) "Digital video output of CbCr. Programmable general-purpose I/O", 60 C_6/GPIO6 (io) "Digital video output of CbCr. Programmable general-purpose I/O", 63 C_5/GPIO5 (io) "Digital video output of CbCr. Programmable general-purpose I/O", 64 C_4/GPIO4 (io) "Digital video output of CbCr. Programmable general-purpose I/O", 65 C_3/GPIO3 (io) "Digital video output of CbCr. Programmable general-purpose I/O", 66 C_2/GPIO2 (io) "Digital video output of CbCr. Programmable general-purpose I/O", 69 C_1/GPIO1 (io) "Digital video output of CbCr. Programmable general-purpose I/O", 70 C_0/GPIO0 (io) "Digital video output of CbCr (LSB). Programmable general-purpose I/O", 71 FID/GPIO (io) "Odd/even field indicator output. Programmable general-purpose I/O.", 72 HS/CS/GPIO (io) "Horizontal sync output or digital composite sync output. Programmable general-purpose I/O.", 73 VS/VBLK/GPIO (io) "Vertical sync output (for modes with dedicated VSYNC) or VBLK output. Programmable general-purpose I/O.", 74 XTAL1 (in) "External clock reference input.", 75 XTAL2 (out) "External clock reference output.", 80 VI_1_A (io) "Analog video input for CVBS/Pb/C or analog video input"
part B pins: 3 CH1_A33GND (power) "Analog 3.3-V return", 4 CH1_A33VDD (power) "Analog power. Connect to 3.3 V.", 5 CH2_A33VDD (power) "Analog power. Connect to 3.3 V.", 6 CH2_A33GND (power) "Analog 3.3-V return", 10 CH2_A18GND (power) "Analog 1.8-V return", 11 CH2_A18VDD (power) "Analog power. Connect to 1.8 V.", 12 A18VDD_REF (power) "Analog power for reference 1.8 V.", 13 A18GND_REF (power) "Analog 1.8-V return.", 14 NC "Not connected", 15 NC "Not connected", 19 NC "Not connected", 20 NC "Not connected", 21 NC "Not connected", 22 NC "Not connected", 24 A18GND (power) "Analog 1.8-V return", 25 A18VDD (power) "Analog power. Connect to 1.8 V.", 26 AGND (power) "Analog ground. Connect to analog ground.", 27 DGND (power) "Digital return", 31 DVDD (power) "Digital power. Connect to 1.8 V.", 32 DGND (power) "Digital return", 38 IOVDD (power) "Digital power. Connect to 3.3 V or less for reduced noise.", 39 IOGND (power) "Digital power return", 41 DVDD (power) "Digital power. Connect to 1.8 V.", 42 DGND (power) "Digital return", 48 IOVDD (power) "Digital power. Connect to 3.3 V or less for reduced noise.", 49 IOGND (power) "Digital power return", 55 DVDD (power) "Digital power. Connect to 1.8 V.", 56 DGND (power) "Digital return", 61 IOVDD (power) "Digital power. Connect to 3.3 V or less for reduced noise.", 62 IOGND (power) "Digital power return", 67 DVDD (power) "Digital power. Connect to 1.8 V.", 68 DGND (power) "Digital return", 76 PLL_A18VDD (power) "Analog power. Connect to 1.8 V.", 77 PLL_A18GND (io) "Analog power return", 78 CH1_A18VDD (power) "Analog power. Connect to 1.8 V.", 79 CH1_A18GND (power) "Analog 1.8-V return"

## TVP5147PFP
designator U?
NTSC/PAL/SECAM 2x10-Bit Digital Video Decoder with Macrovision Detection, YPbPr Inputs, 5-Line Comb Filter, 80-Pin HTQFP; Published: 6-Oct-2005; LatestRevisionDate: 13-Apr-2006; LatestRevisionNote: IPC-7351 Footprint Added.; DatasheetVersion: Jan-2005; PackageVersion: Aug-2003; PackageReference: PFP80; Publisher: Altium Limited; PackageDescription: 80-Pin Plastic Quad Flat Pack PowerPAD; ComponentLink1Description: Manufacturer Link; ComponentLink1URL: http://focus.ti.com/docs/prod/folders/print/tvp5147.html; ComponentLink2Description: Datasheet; ComponentLink2URL: http://focus.ti.com/lit/ds/symlink/tvp5147.pdf
footprint PFP80_N (Thin QFP, 80-Leads, Body 12x12mm, Pitch 0.5mm, IPC Medium Density)
footprint PFP80_L (Thin QFP, 80-Leads, Body 12x12mm, Pitch 0.5mm, IPC High Density)
footprint PFP80_M (Thin QFP, 80-Leads, Body 12x12mm, Pitch 0.5mm, IPC Low Density)
part A pins: 1 VI_1_B (in) "Analog video input for CVBS/Pb/C", 2 VI_1_C (in) "Analog video input for CVBS/Pb/C", 7 VI_2_A (in) "Analog video input for CVBS/Y", 8 VI_2_B (in) "Analog video input for CVBS/Y", 9 VI_2_C (in) "Analog video input for CVBS/Y", 16 VI_3_A (in) "Analog video input for CVBS/Pr/C", 17 VI_3_B (in) "Analog video input for CVBS/Pr/C", 18 VI_3_C (in) "Analog video input for CVBS/Pr/C", 23 VI_4_A (in) "Analog video input for CVBS/Y", 28 SCL (in) "I2C clock input.", 29 SDA (io) "I2C data bus", 30 INTREQ (out) "Interrupt request.", 33 PWDN (in) "Power-down input.", 34 RESETB (in) "Reset input, active low.", 35 GPIO (io) "Programmable general-purpose I/O.", 36 AVID/GPIO (io) "Active video indicator output. Programmable general-purpose I/O.", 37 GLCO/I2CA (io) "Genlock control output (GLCO). During reset, used to program I2C address LSB.", 40 DATACLK (out) "Line-locked data output clock", 43 Y_9 (out) "Digital video output of Y/YCbCr (MSB).", 44 Y_8 (out) "Digital video output of Y/YCbCr.", 45 Y_7 (out) "Digital video output of Y/YCbCr.", 46 Y_6 (out) "Digital video output of Y/YCbCr.", 47 Y_5 (out) "Digital video output of Y/YCbCr.", 50 Y_4 (out) "Digital video output of Y/YCbCr.", 51 Y_3 (out) "Digital video output of Y/YCbCr.", 52 Y_2 (out) "Digital video output of Y/YCbCr.", 53 Y_1 (out) "Digital video output of Y/YCbCr.", 54 Y_0 (out) "Digital video output of Y/YCbCr (LSB).", 57 C_9/GPIO9 (io) "Digital video output of CbCr (MSB). Programmable general-purpose I/O", 58 C_8/GPIO8 (io) "Digital video output of CbCr. Programmable general-purpose I/O", 59 C_7/GPIO7 (io) "Digital video output of CbCr. Programmable general-purpose I/O", 60 C_6/GPIO6 (io) "Digital video output of CbCr. Programmable general-purpose I/O", 63 C_5/GPIO5 (io) "Digital video output of CbCr. Programmable general-purpose I/O", 64 C_4/GPIO4 (io) "Digital video output of CbCr. Programmable general-purpose I/O", 65 C_3/GPIO3 (io) "Digital video output of CbCr. Programmable general-purpose I/O", 66 C_2/GPIO2 (io) "Digital video output of CbCr. Programmable general-purpose I/O", 69 C_1/GPIO1 (io) "Digital video output of CbCr. Programmable general-purpose I/O", 70 C_0/GPIO0 (io) "Digital video output of CbCr (LSB). Programmable general-purpose I/O", 71 FID/GPIO (io) "Odd/even field indicator output. Programmable general-purpose I/O.", 72 HS/CS/GPIO (io) "Horizontal sync output or digital composite sync output. Programmable general-purpose I/O.", 73 VS/VBLK/GPIO (io) "Vertical sync output (for modes with dedicated VSYNC) or VBLK output. Programmable general-purpose I/O.", 74 XTAL1 (in) "External clock reference input.", 75 XTAL2 (out) "External clock reference output.", 80 VI_1_A (io) "Analog video input for CVBS/Pb/C or analog video input"
part B pins: 3 CH1_A33GND (power) "Analog 3.3-V return", 4 CH1_A33VDD (power) "Analog power. Connect to 3.3 V.", 5 CH2_A33VDD (power) "Analog power. Connect to 3.3 V.", 6 CH2_A33GND (power) "Analog 3.3-V return", 10 CH2_A18GND (power) "Analog 1.8-V return", 11 CH2_A18VDD (power) "Analog power. Connect to 1.8 V.", 12 A18VDD_REF (power) "Analog power for reference 1.8 V.", 13 A18GND_REF (power) "Analog 1.8-V return.", 14 NC "Not connected", 15 NC "Not connected", 19 NC "Not connected", 20 NC "Not connected", 21 NC "Not connected", 22 NC "Not connected", 24 A18GND (power) "Analog 1.8-V return", 25 A18VDD (power) "Analog power. Connect to 1.8 V.", 26 AGND (power) "Analog ground. Connect to analog ground.", 27 DGND (power) "Digital return", 31 DVDD (power) "Digital power. Connect to 1.8 V.", 32 DGND (power) "Digital return", 38 IOVDD (power) "Digital power. Connect to 3.3 V or less for reduced noise.", 39 IOGND (power) "Digital power return", 41 DVDD (power) "Digital power. Connect to 1.8 V.", 42 DGND (power) "Digital return", 48 IOVDD (power) "Digital power. Connect to 3.3 V or less for reduced noise.", 49 IOGND (power) "Digital power return", 55 DVDD (power) "Digital power. Connect to 1.8 V.", 56 DGND (power) "Digital return", 61 IOVDD (power) "Digital power. Connect to 3.3 V or less for reduced noise.", 62 IOGND (power) "Digital power return", 67 DVDD (power) "Digital power. Connect to 1.8 V.", 68 DGND (power) "Digital return", 76 PLL_A18VDD (power) "Analog power. Connect to 1.8 V.", 77 PLL_A18GND (io) "Analog power return", 78 CH1_A18VDD (power) "Analog power. Connect to 1.8 V.", 79 CH1_A18GND (power) "Analog 1.8-V return"

## TVP5147PFPR
designator U?
NTSC/PAL/SECAM 2x10-Bit Digital Video Decoder with Macrovision Detection, YPbPr Inputs, 5-Line Comb Filter, 80-Pin HTQFP; Published: 6-Oct-2005; LatestRevisionDate: 13-Apr-2006; LatestRevisionNote: IPC-7351 Footprint Added.; DatasheetVersion: Jan-2005; PackageVersion: Aug-2003; PackageReference: PFP80; Publisher: Altium Limited; PackageDescription: 80-Pin Plastic Quad Flat Pack PowerPAD; ComponentLink1Description: Manufacturer Link; ComponentLink1URL: http://focus.ti.com/docs/prod/folders/print/tvp5147.html; ComponentLink2Description: Datasheet; ComponentLink2URL: http://focus.ti.com/lit/ds/symlink/tvp5147.pdf
footprint PFP80_N (Thin QFP, 80-Leads, Body 12x12mm, Pitch 0.5mm, IPC Medium Density)
footprint PFP80_L (Thin QFP, 80-Leads, Body 12x12mm, Pitch 0.5mm, IPC High Density)
footprint PFP80_M (Thin QFP, 80-Leads, Body 12x12mm, Pitch 0.5mm, IPC Low Density)
part A pins: 1 VI_1_B (in) "Analog video input for CVBS/Pb/C", 2 VI_1_C (in) "Analog video input for CVBS/Pb/C", 7 VI_2_A (in) "Analog video input for CVBS/Y", 8 VI_2_B (in) "Analog video input for CVBS/Y", 9 VI_2_C (in) "Analog video input for CVBS/Y", 16 VI_3_A (in) "Analog video input for CVBS/Pr/C", 17 VI_3_B (in) "Analog video input for CVBS/Pr/C", 18 VI_3_C (in) "Analog video input for CVBS/Pr/C", 23 VI_4_A (in) "Analog video input for CVBS/Y", 28 SCL (in) "I2C clock input.", 29 SDA (io) "I2C data bus", 30 INTREQ (out) "Interrupt request.", 33 PWDN (in) "Power-down input.", 34 RESETB (in) "Reset input, active low.", 35 GPIO (io) "Programmable general-purpose I/O.", 36 AVID/GPIO (io) "Active video indicator output. Programmable general-purpose I/O.", 37 GLCO/I2CA (io) "Genlock control output (GLCO). During reset, used to program I2C address LSB.", 40 DATACLK (out) "Line-locked data output clock", 43 Y_9 (out) "Digital video output of Y/YCbCr (MSB).", 44 Y_8 (out) "Digital video output of Y/YCbCr.", 45 Y_7 (out) "Digital video output of Y/YCbCr.", 46 Y_6 (out) "Digital video output of Y/YCbCr.", 47 Y_5 (out) "Digital video output of Y/YCbCr.", 50 Y_4 (out) "Digital video output of Y/YCbCr.", 51 Y_3 (out) "Digital video output of Y/YCbCr.", 52 Y_2 (out) "Digital video output of Y/YCbCr.", 53 Y_1 (out) "Digital video output of Y/YCbCr.", 54 Y_0 (out) "Digital video output of Y/YCbCr (LSB).", 57 C_9/GPIO9 (io) "Digital video output of CbCr (MSB). Programmable general-purpose I/O", 58 C_8/GPIO8 (io) "Digital video output of CbCr. Programmable general-purpose I/O", 59 C_7/GPIO7 (io) "Digital video output of CbCr. Programmable general-purpose I/O", 60 C_6/GPIO6 (io) "Digital video output of CbCr. Programmable general-purpose I/O", 63 C_5/GPIO5 (io) "Digital video output of CbCr. Programmable general-purpose I/O", 64 C_4/GPIO4 (io) "Digital video output of CbCr. Programmable general-purpose I/O", 65 C_3/GPIO3 (io) "Digital video output of CbCr. Programmable general-purpose I/O", 66 C_2/GPIO2 (io) "Digital video output of CbCr. Programmable general-purpose I/O", 69 C_1/GPIO1 (io) "Digital video output of CbCr. Programmable general-purpose I/O", 70 C_0/GPIO0 (io) "Digital video output of CbCr (LSB). Programmable general-purpose I/O", 71 FID/GPIO (io) "Odd/even field indicator output. Programmable general-purpose I/O.", 72 HS/CS/GPIO (io) "Horizontal sync output or digital composite sync output. Programmable general-purpose I/O.", 73 VS/VBLK/GPIO (io) "Vertical sync output (for modes with dedicated VSYNC) or VBLK output. Programmable general-purpose I/O.", 74 XTAL1 (in) "External clock reference input.", 75 XTAL2 (out) "External clock reference output.", 80 VI_1_A (io) "Analog video input for CVBS/Pb/C or analog video input"
part B pins: 3 CH1_A33GND (power) "Analog 3.3-V return", 4 CH1_A33VDD (power) "Analog power. Connect to 3.3 V.", 5 CH2_A33VDD (power) "Analog power. Connect to 3.3 V.", 6 CH2_A33GND (power) "Analog 3.3-V return", 10 CH2_A18GND (power) "Analog 1.8-V return", 11 CH2_A18VDD (power) "Analog power. Connect to 1.8 V.", 12 A18VDD_REF (power) "Analog power for reference 1.8 V.", 13 A18GND_REF (power) "Analog 1.8-V return.", 14 NC "Not connected", 15 NC "Not connected", 19 NC "Not connected", 20 NC "Not connected", 21 NC "Not connected", 22 NC "Not connected", 24 A18GND (power) "Analog 1.8-V return", 25 A18VDD (power) "Analog power. Connect to 1.8 V.", 26 AGND (power) "Analog ground. Connect to analog ground.", 27 DGND (power) "Digital return", 31 DVDD (power) "Digital power. Connect to 1.8 V.", 32 DGND (power) "Digital return", 38 IOVDD (power) "Digital power. Connect to 3.3 V or less for reduced noise.", 39 IOGND (power) "Digital power return", 41 DVDD (power) "Digital power. Connect to 1.8 V.", 42 DGND (power) "Digital return", 48 IOVDD (power) "Digital power. Connect to 3.3 V or less for reduced noise.", 49 IOGND (power) "Digital power return", 55 DVDD (power) "Digital power. Connect to 1.8 V.", 56 DGND (power) "Digital return", 61 IOVDD (power) "Digital power. Connect to 3.3 V or less for reduced noise.", 62 IOGND (power) "Digital power return", 67 DVDD (power) "Digital power. Connect to 1.8 V.", 68 DGND (power) "Digital return", 76 PLL_A18VDD (power) "Analog power. Connect to 1.8 V.", 77 PLL_A18GND (io) "Analog power return", 78 CH1_A18VDD (power) "Analog power. Connect to 1.8 V.", 79 CH1_A18GND (power) "Analog 1.8-V return"